# Altium footprint library res.PcbLib: 29 footprints (part 2 of 2)
Each footprint in its own frame and in the unit in brackets; x right, y up, seen from the top. Pads: shape width x height; smd on the part's side, far side on the other; paste and mask are expansions set on the pad; w line width, h text height; cw(c..) or ccw(c..) is an arc to the next point about the centre after c.
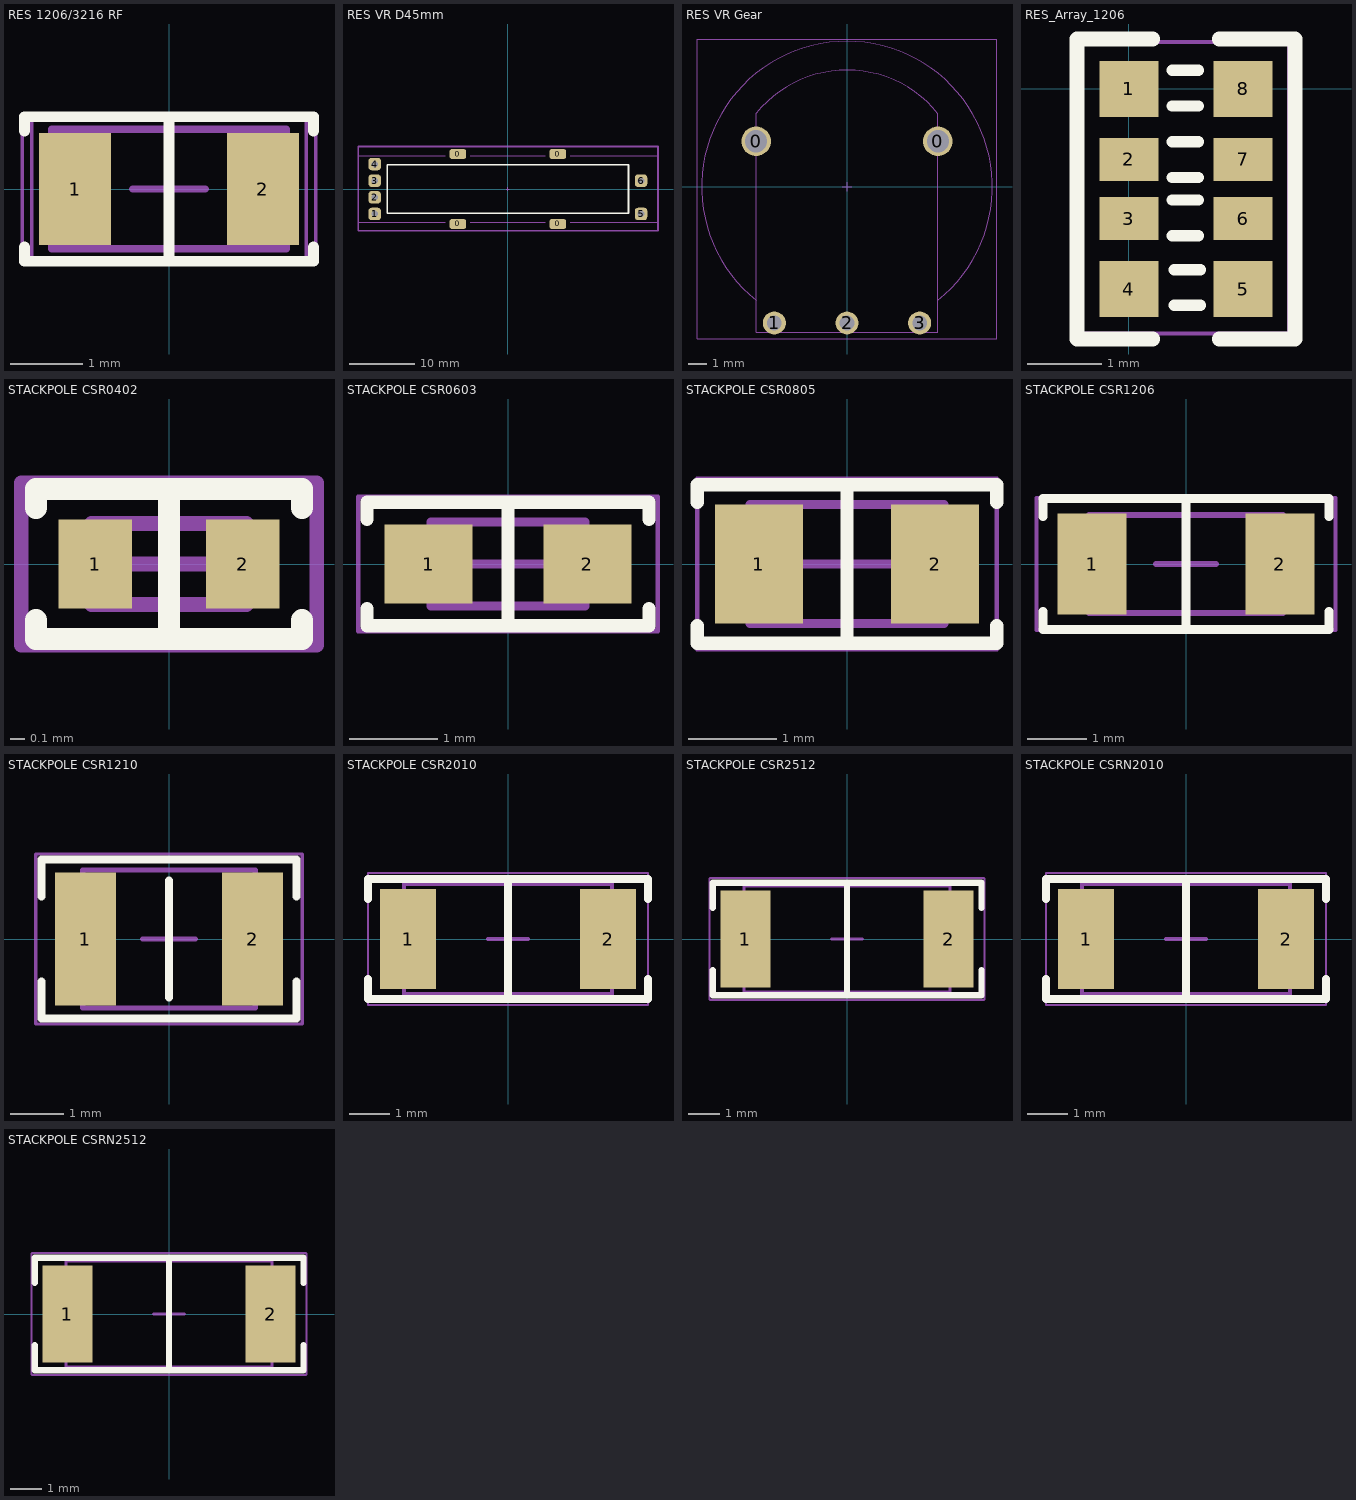
[diagram p1: the footprints below, top view; thin cyan lines are the x and y axes]

## RES 1206/3216 RF [mm] "Chip Resistor, 2-Leads, Body 3.13x1.55mm, IPC High Density"
height 0.7
pads (2):
  rect 1x1.55 smd: 1(-1.3,0) 2(1.3,0)
Top Overlay:
  lines w0.15: -2,-0.8 -2,-1 2,-1 2,-0.8 ; -2,0.8 -2,1 2,1 2,0.8 ; 0,-1 0,1
Mechanical 13:
  lines w0.1: -1.625,-0.825 -1.625,0.825 1.625,0.825 1.625,-0.825 -1.625,-0.825
M15:
  lines w0.051: -2.032,-1.016 2.032,-1.016 2.032,1.016 -2.032,1.016 -2.032,-1.016
  text ".Designator" at -0.508,-0.33 h1.52
Comment:
  lines w0.051: -2.032,-1.016 -2.032,1.016 2.032,1.016 2.032,-1.016 -2.032,-1.016
  text "'.Comment'" at -0.508,-0.33 h1.52
Component Center:
  lines w0.05: -1.9,-0.95 -1.9,0.95 1.9,0.95 1.9,-0.95 -1.9,-0.95
  lines w0.1: -0.5,0 0.5,0 ; 0,-0.5 0,0.5
3D body "1206 resistor.STEP": height 0.63, standoff 0.03, extent -1.575,-0.8 1.625,0.8

## RES VR D45mm [mil]
pads (10):
  rrect50% 100x60 smd: 0(-300,-210) 0(-300,210) 0(300,-210) 0(300,210)
  rrect50% 75x75 hole 39.37: 1(-800,-150) 2(-800,-50) 3(-800,50) 4(-800,150) 5(800,-150) 6(800,50)
Top Overlay:
  lines w10: -725,-145 725,-145 725,145 -725,145 -725,-145
Mechanical 13:
  lines w2: -10,0 10,0 ; 0,-10 0,10
  lines w4: -375,-200 -900,-200 -900,200 -375,200 ; -225,-200 225,-200 ; -225,200 225,200 ; 375,-200 900,-200 900,200 375,200
M15:
  lines w10: -899,-250 902,-250 902,255 -899,255 -899,-250
  text ".Designator" at -80,-52 h200

## RES VR Gear [mm]
height 0.7
pads (5):
  round 1.626 hole 1.219: 0(-5,2.5) 0(5,2.5)
  round 1.27 hole 0.813: 1(-4,-7.5) 2(0,-7.5) 3(4,-7.5)
Mechanical 13:
  lines w0.051: -5.001,-6.244 cw(c0,0) 5.001,-6.244 ; -5,4.033 -5,-8.001 5,-8.001 5,4.016 ; -4.996,4.029 cw(c0,0) 5.004,4.019 ; -0.254,0 0.254,0 ; 0,-0.254 0,0.254
M15:
  lines w0.051: -8.255,-8.382 8.255,-8.382 8.255,8.128 -8.255,8.128 -8.255,-8.382
  text ".Designator" at -2.083,-1.422 h5.08

## RES_Array_1206 [mm]
pads (8):
  rect 0.8x0.75 smd: 1(0,0) 4(0,-2.7) 5(1.54,-2.7) 8(1.54,0)
  rect 0.8x0.58 smd: 2(0,-0.95) 3(0,-1.75) 6(1.54,-1.75) 7(1.54,-0.95)
Top Overlay:
  lines w0.152: -0.7,0.649 -0.7,0.675 ; 0.584,-1.981 0.94,-1.981 ; 0.584,-1.499 0.94,-1.499 ; 0.584,-1.194 0.94,-1.194 ; 0.584,-0.711 0.94,-0.711 ; 0.584,-0.229 0.94,-0.229 ; 0.584,0.254 0.94,0.254 ; 0.61,-2.921 0.965,-2.921 ; 0.61,-2.438 0.965,-2.438
  lines w0.2: 0.32,-3.375 -0.7,-3.375 -0.7,0.675 0.32,0.675 ; 1.22,-3.375 2.24,-3.375 2.24,0.675 1.22,0.675
M15:
  lines w0.051: -0.635,-3.302 2.159,-3.302 2.159,0.635 -0.635,0.635 -0.635,-3.302
  text ".Designator" at 1.041,-1.778 h1.02
3D body "User Library-R1206-4R.step": height 0.59, standoff 0.01, extent -0.013,-2.946 1.587,0.254

## STACKPOLE CSR0402 [mm] "Chip Resistor, 2-Leads, Body 1.0x0.5mm, IPC Medium Density"
height 0.4
pads (2):
  rect 0.5x0.6 smd: 1(-0.5,0) 2(0.5,0)
Top Overlay:
  lines w0.15: -0.9,-0.381 -0.9,-0.508 0.9,-0.508 0.9,-0.381 ; -0.9,0.381 -0.9,0.508 0.9,0.508 0.9,0.381 ; 0,-0.508 0,0.508
Mechanical 13:
  lines w0.1: -0.525,-0.275 0.525,-0.275 0.525,0.275 -0.525,0.275 -0.525,-0.275
M15:
  lines w0.051: -1.016,-0.559 1.016,-0.559 1.016,0.559 -1.016,0.559 -1.016,-0.559
  text ".Designator" at -0.203,-0.127 h0.51
Component Center:
  lines w0.1: -0.275,0 0.275,0 ; 0,-0.275 0,0.275 ; -1,-0.55 1,-0.55 1,0.55 -1,0.55 -1,-0.55
3D body "Stackpole CSR0402 Res.STEP": height 0.32, standoff 0, extent -0.525,-0.25 0.525,0.25

## STACKPOLE CSR0603 [mm] "Chip Resistor, 2-Leads, Body 1.60x0.80mm, IPC Medium Density"
height 0.45
pads (2):
  rect 1x0.9 smd: 1(-0.9,0) 2(0.9,0)
Top Overlay:
  lines w0.15: -1.6,-0.508 -1.6,-0.7 1.6,-0.7 1.6,-0.508 ; -1.6,0.508 -1.6,0.7 1.6,0.7 1.6,0.508 ; 0,-0.7 0,0.7
Mechanical 13:
  lines w0.1: -0.875,-0.475 -0.875,0.475 0.875,0.475 0.875,-0.475 -0.875,-0.475
M15:
  lines w0.051: -1.702,-0.762 1.702,-0.762 1.702,0.762 -1.702,0.762 -1.702,-0.762
  text ".Designator" at -0.406,-0.279 h1.02
Component Center:
  lines w0.05: -1.7,-0.75 1.7,-0.75 1.7,0.75 -1.7,0.75 -1.7,-0.75
  lines w0.1: -0.475,0 0.475,0 ; 0,-0.475 0,0.475
3D body "Stackpole CSR0603 Res.STEP": height 0.45, standoff 0, extent -0.85,-0.4 0.85,0.4

## STACKPOLE CSR0805 [mm] "Chip Resistor, 2-Leads, Body 2.00x1.25mm, IPC Medium Density"
height 0.7
pads (2):
  rect 1x1.35 smd: 1(-1,0) 2(1,0)
Top Overlay:
  lines w0.15: -1.7,-0.7 -1.7,-0.9 1.7,-0.9 1.7,-0.7 ; -1.7,0.7 -1.7,0.9 1.7,0.9 1.7,0.7 ; 0,-0.9 0,0.9
Mechanical 13:
  lines w0.1: -1.1,-0.675 -1.1,0.675 1.1,0.675 1.1,-0.675 -1.1,-0.675
M15:
  lines w0.051: -1.702,-0.965 1.702,-0.965 1.702,0.965 -1.702,0.965 -1.702,-0.965
  text ".Designator" at -0.406,-0.279 h1.02
Component Center:
  lines w0.05: -1.7,-0.95 1.7,-0.95 1.7,0.95 -1.7,0.95 -1.7,-0.95
  lines w0.1: -0.5,0 0.5,0 ; 0,-0.5 0,0.5
3D body "Stackpole CSR0805 Res.STEP": height 0.55, standoff 0, extent -1.05,-0.625 1.05,0.625

## STACKPOLE CSR1206 [mm] "Chip Resistor, 2-Leads, Body 3.13x1.55mm, IPC Medium Density"
height 0.7
pads (2):
  rect 1.15x1.7 smd: 1(-1.575,0) 2(1.575,0)
Top Overlay:
  lines w0.15: -2.4,-0.8 -2.4,-1.1 2.4,-1.1 2.4,-0.8 ; -2.4,0.8 -2.4,1.1 2.4,1.1 2.4,0.8 ; 0,-1.1 0,1.1
Mechanical 13:
  lines w0.1: -1.625,-0.825 -1.625,0.825 1.625,0.825 1.625,-0.825 -1.625,-0.825
M15:
  lines w0.051: -2.515,-1.118 2.515,-1.118 2.515,1.118 -2.515,1.118 -2.515,-1.118
  text ".Designator" at -0.406,-0.279 h1.02
Component Center:
  lines w0.05: -2.5,-1.1 2.5,-1.1 2.5,1.1 -2.5,1.1 -2.5,-1.1
  lines w0.1: -0.5,0 0.5,0 ; 0,-0.5 0,0.5
3D body "Stackpole CSR1206 Res.STEP": height 0.55, standoff 0, extent -1.6,-0.775 1.6,0.775

## STACKPOLE CSR1210 [mm] "Chip Resistor, 2-Leads, Body 3.1x2.6mm, IPC Medium Density"
height 0.65
pads (2):
  rect 1.15x2.5 smd: 1(-1.575,0) 2(1.575,0)
Top Overlay:
  lines w0.15: -2.4,-0.8 -2.4,-1.5 2.4,-1.5 2.4,-0.8 ; -2.4,0.8 -2.4,1.5 2.4,1.5 2.4,0.8 ; 0,-1.1 0,1.1
Mechanical 13:
  lines w0.1: -1.625,-1.3 -1.625,1.3 1.625,1.3 1.625,-1.3 -1.625,-1.3
M15:
  lines w0.051: -2.515,-1.6 2.515,-1.6 2.515,1.6 -2.515,1.6 -2.515,-1.6
  text ".Designator" at -0.406,-0.279 h1.02
Component Center:
  lines w0.05: -2.5,-1.6 2.5,-1.6 2.5,1.6 -2.5,1.6 -2.5,-1.6
  lines w0.1: -0.5,0 0.5,0 ; 0,-0.5 0,0.5
3D body "Stackpole CSR1210 Res.STEP": height 0.55, standoff 0, extent -1.6,-1.3 1.6,1.3

## STACKPOLE CSR2010 [mm] "Chip Resistor, 2-Leads, Body 5.00x2.54mm, IPC Medium Density"
height 0.65
pads (2):
  rect 1.4x2.5 smd: 1(-2.5,0) 2(2.5,0)
Top Overlay:
  lines w0.2: -3.5,-1 -3.5,-1.5 3.5,-1.5 3.5,-1 ; -3.5,1 -3.5,1.5 3.5,1.5 3.5,1 ; 0,-1.5 0,1.5
Mechanical 13:
  lines w0.1: -2.6,-1.37 -2.6,1.37 2.6,1.37 2.6,-1.37 ; -2.6,-1.37 2.6,-1.37 ; -2.6,-1.37 2.6,-1.37
M15:
  lines w0.051: -3.505,-1.651 3.505,-1.651 3.505,1.651 -3.505,1.651 -3.505,-1.651
  text ".Designator" at -0.61,-0.406 h1.52
Component Center:
  lines w0.05: -3.5,-1.65 3.5,-1.65 3.5,1.65 -3.5,1.65 -3.5,-1.65
  lines w0.1: -0.5,0 0.5,0 ; 0,-0.5 0,0.5
3D body "Stackpole CSR2010 Res.STEP": height 0.5, standoff 0, extent -2.575,-1.27 2.575,1.27

## STACKPOLE CSR2512 [mm] "Chip Resistor, 2-Leads, Body 6.40x3.20mm, IPC Medium Density"
height 0.65
pads (2):
  rect 1.6x3.1 smd: 1(-3.25,0) 2(3.25,0)
Top Overlay:
  lines w0.2: -4.3,-1 -4.3,-1.8 4.3,-1.8 4.3,-1 ; -4.3,1 -4.3,1.8 4.3,1.8 4.3,1 ; 0,-1.8 0,1.8
Mechanical 13:
  lines w0.1: -3.3,-1.7 -3.3,1.7 3.3,1.7 3.3,-1.7 -3.3,-1.7
M15:
  lines w0.051: -4.394,-1.956 4.394,-1.956 4.394,1.956 -4.394,1.956 -4.394,-1.956
  text ".Designator" at -0.61,-0.406 h1.52
Component Center:
  lines w0.05: -4.4,-1.95 4.4,-1.95 4.4,1.95 -4.4,1.95 -4.4,-1.95
  lines w0.1: -0.5,0 0.5,0 ; 0,-0.5 0,0.5
3D body "Stackpole CSR2512 Res.STEP": height 0.5, standoff 0, extent -3.275,-1.6 3.275,1.6

## STACKPOLE CSRN2010 [mm] "Chip Resistor, 2-Leads, Body 5.00x2.54mm, IPC Medium Density"
height 0.65
pads (2):
  rect 1.4x2.5 smd: 1(-2.5,0) 2(2.5,0)
Top Overlay:
  lines w0.2: -3.5,-1 -3.5,-1.5 3.5,-1.5 3.5,-1 ; -3.5,1 -3.5,1.5 3.5,1.5 3.5,1 ; 0,-1.5 0,1.5
Mechanical 13:
  lines w0.1: -2.6,-1.37 -2.6,1.37 2.6,1.37 2.6,-1.37 ; -2.6,-1.37 2.6,-1.37 ; -2.6,-1.37 2.6,-1.37
M15:
  lines w0.051: -3.505,-1.651 3.505,-1.651 3.505,1.651 -3.505,1.651 -3.505,-1.651
  text ".Designator" at -0.61,-0.406 h1.52
Component Center:
  lines w0.05: -3.5,-1.65 -3.5,1.65 3.5,1.65 3.5,-1.65 -3.5,-1.65
  lines w0.1: -0.5,0 0.5,0 ; 0,-0.5 0,0.5
3D body "Stackpole CSRN2010 Res.STEP": height 0.6, standoff 0, extent -2.575,-1.225 2.575,1.225

## STACKPOLE CSRN2512 [mm] "Chip Resistor, 2-Leads, Body 6.40x3.20mm, IPC Medium Density"
height 0.65
pads (2):
  rect 1.6x3.1 smd: 1(-3.25,0) 2(3.25,0)
Top Overlay:
  lines w0.2: -4.3,-1 -4.3,-1.8 4.3,-1.8 4.3,-1 ; -4.3,1 -4.3,1.8 4.3,1.8 4.3,1 ; 0,-1.8 0,1.8
Mechanical 13:
  lines w0.1: -3.3,-1.7 -3.3,1.7 3.3,1.7 3.3,-1.7 -3.3,-1.7
M15:
  lines w0.051: -4.394,-1.956 4.394,-1.956 4.394,1.956 -4.394,1.956 -4.394,-1.956
  text ".Designator" at -0.61,-0.406 h1.52
Component Center:
  lines w0.05: -4.4,-1.95 -4.4,1.95 4.4,1.95 4.4,-1.95 -4.4,-1.95
  lines w0.1: -0.5,0 0.5,0 ; 0,-0.5 0,0.5
3D body "Stackpole CSRN2512 Res.STEP": height 0.6, standoff 0, extent -3.25,-1.575 3.25,1.575